# Altium integrated library ADUM1201CR.IntLib: 1 symbol
Pins are listed as number, name and electrical type; pins without a type are passive.

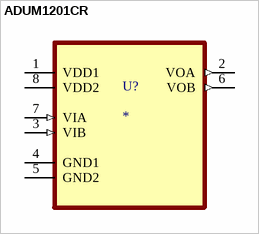
[diagram p0: symbol ADUM1201CR]

## ADUM1201CR
designator U?
General Purpose Digital Isolator 2500Vrms 2 Channel 25Mbps 25kV/Âµs CMTI 8-SOIC (0.154, 3.90mm Width); MF: Analog Devices; MP: ADUM1201CR; SnapEDA_Link: https://www.snapeda.com/parts/ADUM1201CR/Analog+Devices/view-part/?ref=snap; Package: SOIC-8 Analog Devices; Value: *; Check_prices: https://www.snapeda.com/parts/ADUM1201CR/Analog+Devices/view-part/?ref=eda
footprint SOIC127P600X175-8N
pins: 1 VDD1 (power), 2 VOA (out), 3 VIB (in), 4 GND1, 5 GND2, 6 VOB (out), 7 VIA (in), 8 VDD2 (power)